# EAGLE library part 692121230100 (library MicroUSB)
WR-COM USB 3.0 HORIZONTALTYPE A WITH OFFSET 1.04mm
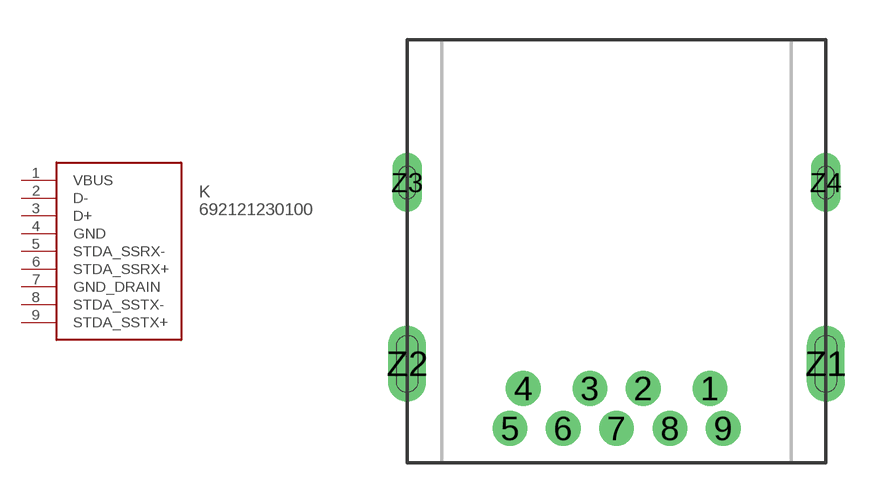
[diagram p18: symbol with the pads of 692121230100; footprint 692121230100]

Designator prefix K

## 692121230100  [692121230100]
1  VBUS
2  D-
3  D+
4  GND
5  STDA_SSRX-
6  STDA_SSRX+
7  GND_DRAIN
8  STDA_SSTX-
9  STDA_SSTX+

## Footprint 692121230100 (pad centres in mm)
WR-COM USB 3.0 HORIZONTALTYPE A WITH OFFSET 1.04mm
drill 0.7 pad 1.3: 1 3.5,1.5; 2 1,1.5; 3 -1,1.5; 4 -3.5,1.5; 5 -4,0; 6 -2,0; 7 0,0; 8 2,0; 9 4,0
drill 0.8 pad 1.422 long: Z1 7.85,2.43; Z2 -7.85,2.43
drill 0.6 long: Z3 -7.85,9.23; Z4 7.85,9.23